# Altium footprint library APC.PcbLib: 68 footprints (part 4 of 5)
Each footprint in its own frame and in the unit in brackets; x right, y up, seen from the top. Pads: shape width x height; smd on the part's side, far side on the other; paste and mask are expansions set on the pad; w line width, h text height; cw(c..) or ccw(c..) is an arc to the next point about the centre after c.
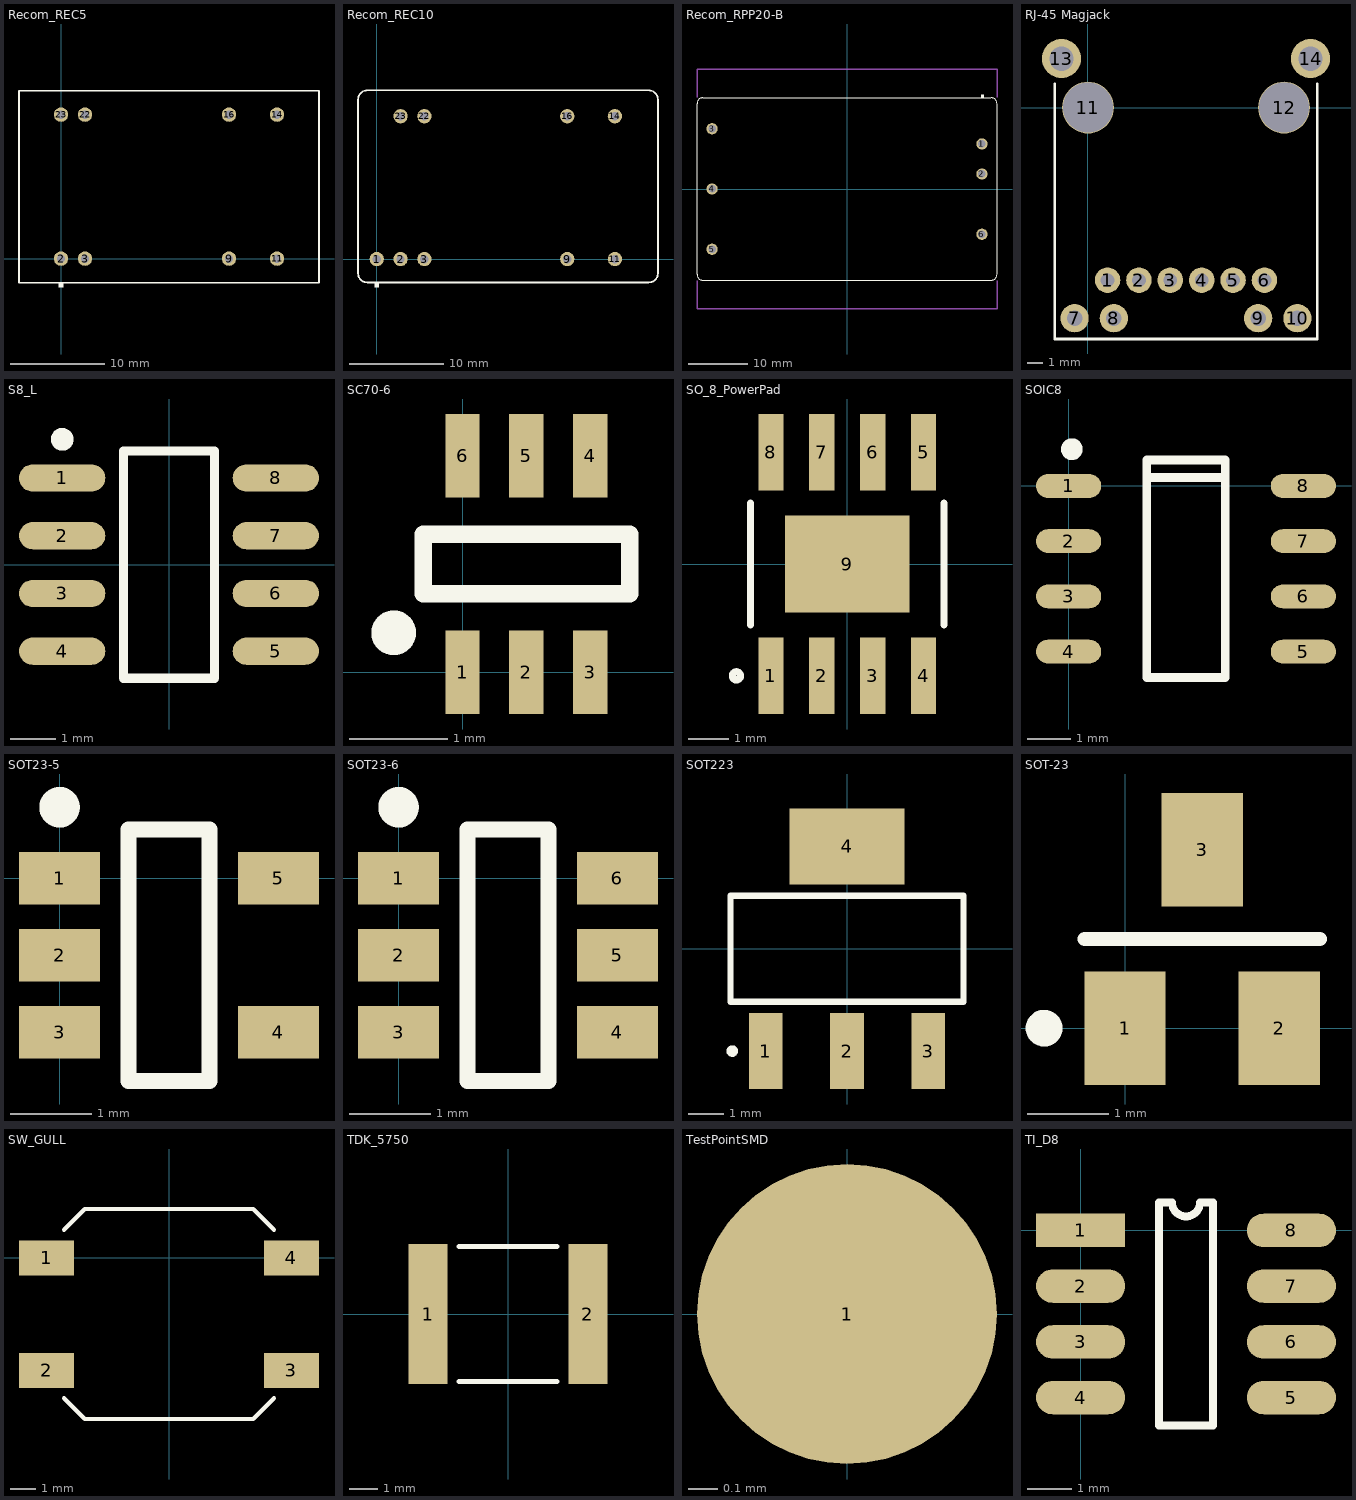
[diagram p3: the footprints below, top view; thin cyan lines are the x and y axes]

## Recom_REC5 [mil] "Recom DC-DC Converter"
height 401.57
pads (8):
  round 60 hole 35: 2(0,0) 3(100,0) 9(700,0) 11(900,0) 14(900,600) 16(700,600) 22(100,600) 23(0,600)
Top Overlay:
  rectangle: -10,-120 10,-100
  lines w7: -175,-100 1075,-100 1075,700 -175,700 -175,-100
3D body: height 400, standoff 0, extent -175,-100 1075,700

## Recom_REC10 [mil] "Recom DC-DC Converter"
height 401.57
pads (9):
  round 60 hole 35: 1(0,0) 2(100,0) 3(200,0) 9(800,0) 11(1000,0) 14(1000,600) 16(800,600) 22(200,600) 23(100,600)
Top Overlay:
  rectangle: -10,-120 10,-100
  lines w7: -78.74,-59.06 ccw(c-39.37,-59.06) -39.37,-98.43 1141.73,-98.43 ccw(c1141.73,-59.06) 1181.1,-59.06 1181.1,669.29 ccw(c1141.73,669.29) 1141.73,708.66 -39.37,708.66 ccw(c-39.37,669.29) -78.74,669.29 -78.74,-59.06
3D body: height 400, standoff 0, extent -80,-100 1180,710

## Recom_RPP20-B [mm] "Recom 20W DC-DC Converter"
height 11.4
pads (6):
  round 1.905 hole 1.27: 1(22.85,7.64) 2(22.85,2.54) 3(-22.85,10.2) 4(-22.85,0) 5(-22.85,-10.2) 6(22.85,-7.66)
Top Overlay:
  rectangle: 22.65,15.517 23.158,16.025
  lines w0.178: 24.375,15.45 -24.4,15.45 ccw(c-24.4,14.45) -25.4,14.45 -25.4,-14.45 ccw(c-24.4,-14.45) -24.4,-15.45 24.4,-15.45 ccw(c24.4,-14.45) 25.4,-14.45 25.4,14.425 ; 24.4,15.45 cw(c24.4,14.45) 25.4,14.45
Mechanical 2:
  lines w0.254: -25.4,-15.5 -25.4,-20.3 25.4,-20.3 25.4,-15.5 ; -25.4,15.5 -25.4,20.3 25.4,20.3 25.4,15.5
3D body: height 11.4, standoff 0, extent -25.4,-15.45 25.4,15.45

## RJ-45 Magjack [mil] "Bel Magjack 4-core"
height 531
pads (14):
  round 65 hole 35 unplated: 1(50,-440) 2(130,-440) 3(210,-440) 4(290,-440) 5(370,-440) 6(450,-440)
  round 72 hole 40 unplated: 7(-34,-537) 8(66,-537) 9(434,-537) 10(534,-537)
  round 132 hole 128 unplated: 11(0,0) 12(500,0)
  round 100 hole 62 unplated: 13(-67.5,125) 14(567.5,125)
Top Overlay:
  lines w7: -85,60 -85,-590 585,-590 585,60
3D body: height 531, standoff 0, extent -83.94,-593.94 583.94,413.94

## S8_L [mm] "SOIC, 8-Leads, Body 4.9x3.9mm, Pitch 1.27mm, IPC High Density"
height 1.76
pads (8):
  oval 1.9x0.6 smd: 1(-2.35,1.905) 2(-2.35,0.635) 3(-2.35,-0.635) 4(-2.35,-1.905) 5(2.35,-1.905) 6(2.35,-0.635) 7(2.35,0.635) 8(2.35,1.905)
Top Overlay:
  circle w0.25: c-2.35,2.755 r0.125
  lines w0.2: -1,-2.5 1,-2.5 1,2.5 -1,2.5 -1,-2.5
3D body: height 1.78, standoff 0, extent -1.016,-2.54 1.016,2.54

## SC70-6 [mm] "SC70 Package, 6-pin"
height 1.1
pads (6):
  rect 0.35x0.85 smd mask+0.152: 1(0,0) 2(0.65,0) 3(1.3,0) 4(1.3,2.2) 5(0.65,2.2) 6(0,2.2)
Top Overlay:
  circle w0.254: c-0.7,0.4 r0.1
  lines w0.178: -0.4,0.8 1.7,0.8 1.7,1.4 -0.4,1.4 -0.4,0.8
3D body: height 1.14, standoff 0, extent -0.381,0.635 1.651,1.524

## SO_8_PowerPad [mil] "SO-8 with Power Pad"
height 60
pads (9):
  rect 25x75 smd: 1(-75,-110) 2(-25,-110) 3(25,-110) 4(75,-110) 5(75,110) 6(25,110) 7(-25,110) 8(-75,110)
  rect 122x95 smd: 9(0,0)
Top Overlay:
  circle w7.01: c-109,-110 r4
  lines w7: -95,-60 -95,60 ; 95,-60 95,60
3D body: height 59.06, standoff 0, extent -94.49,-59.06 94.49,59.06

## SOIC8 [mm] "SOIC, 8-Leads, Body 4.9x3.9mm, Pitch 1.27mm"
height 1.75
pads (8):
  oval 1.5x0.55 smd: 1(0,0) 2(0,-1.27) 3(0,-2.54) 4(0,-3.81) 5(5.4,-3.81) 6(5.4,-2.54) 7(5.4,-1.27) 8(5.4,0)
Top Overlay:
  circle w0.25: c0.075,0.845 r0.125
  lines w0.2: 1.8,0.195 3.6,0.195 ; 1.8,-4.405 1.8,0.595 3.6,0.595 3.6,-4.405 1.8,-4.405
3D body: height 1.75, standoff 0, extent 0.75,-4.355 4.65,0.545

## SOT23-5 [mm] "SOT23, 5-Leads, Body 2.9x1.6mm, Pitch 0.95mm, Lead Span 2.8mm"
height 1.45
pads (5):
  rect 1x0.65 smd mask+0.152: 1(0,0) 2(0,-0.95) 3(0,-1.9)
  rect 1x0.65 smd: 4(2.7,-1.9) 5(2.7,0)
Top Overlay:
  circle w0.25: c0,0.875 r0.125
  lines w0.2: 0.85,-2.5 0.85,0.6 1.85,0.6 1.85,-2.5 0.85,-2.5
3D body: height 1.45, standoff 0, extent 0.692,-2.601 1.962,0.701

## SOT23-6 [mm] "SOT23, 6-Leads, Body 2.9x1.6mm, Pitch 0.95mm, Lead Span 2.8mm"
height 1.45
pads (6):
  rect 1x0.65 smd mask+0.152: 1(0,0) 2(0,-0.95) 3(0,-1.9) 4(2.7,-1.9) 5(2.7,-0.95) 6(2.7,0)
Top Overlay:
  circle w0.25: c0,0.875 r0.125
  lines w0.2: 0.85,-2.5 1.85,-2.5 1.85,0.6 0.85,0.6 0.85,-2.5
3D body: height 1.45, standoff 0, extent 0.692,-2.601 1.962,0.701

## SOT223 [mm] "SOT223"
height 1.6
pads (4):
  rect 0.95x2.15 smd: 1(-2.3,-2.9) 2(0,-2.9) 3(2.3,-2.9)
  rect 3.25x2.15 smd: 4(0,2.9)
Top Overlay:
  circle w0.178: c-3.25,-2.9 r0.075
  lines w0.178: -3.3,-1.5 3.3,-1.5 3.3,1.5 -3.3,1.5 -3.3,-1.5
3D body: height 1.6, standoff 0, extent -3.302,-1.524 3.302,1.524

## SOT-23 [mm] "SOT-23-3"
height 1.3
pads (3):
  rect 1x1.4 smd: 1(0,0) 2(1.9,0) 3(0.95,2.2)
Top Overlay:
  circle w0.254: c-1,0 r0.1
  lines w0.178: -0.5,1.1 2.4,1.1
3D body: height 1.3, standoff 0, extent -0.5,0.4 2.5,1.8

## SW_GULL [mm]
height 5.08
pads (4):
  rect 2.2x1.4 smd: 1(-4.9,0) 2(-4.9,-4.5) 3(4.9,-4.5) 4(4.9,0)
Top Overlay:
  lines w0.178: -4.2,-5.625 -3.375,-6.45 3.375,-6.45 4.2,-5.625 ; -4.2,1.125 -3.375,1.95 3.375,1.95 4.2,1.125
3D body: height 5.08, standoff 0, extent -4.191,-6.477 4.191,1.905

## TDK_5750 [mm] "TDK Ceramic Capacitor, 5750 size"
height 2.5
pads (2):
  rect 1.4x5 smd: 1(-2.85,0) 2(2.85,0)
Top Overlay:
  lines w0.178: -1.75,-2.4 1.75,-2.4 ; -1.75,2.4 1.75,2.4
3D body: height 2.8, standoff 0, extent -2.8,-2.5 2.8,2.5

## TestPointSMD [mil] "Test Point - Single Layer"
pads (1):
  round 40 smd: 1(0,0)

## TI_D8 [mil] "Texas Instruments, D* package"
height 39.37
pads (8):
  rect 80x30 smd: 1(0,0)
  oval 80x30 smd: 2(0,-50) 3(0,-100) 4(0,-150) 5(188.98,-150) 6(188.98,-100) 7(188.98,-50) 8(188.98,0)
Top Overlay:
  lines w7: 70.39,-175 70.39,25 81.99,25 ccw(c94.49,25) 106.99,25 118.59,25 118.59,-175 70.39,-175
3D body: height 40, standoff 0, extent 60,-175 135,25